# EAGLE library part ICSP_HDR (library ZMPLC)
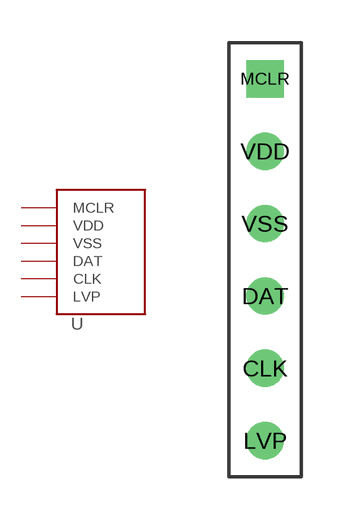
[diagram p26: symbol with the pads of ACTUAL_ICSP; footprint ACTUAL_ICSP]

Designator prefix -

## ICSP_HDR  [ACTUAL_ICSP]
CLK  CLK
DAT  DAT
LVP  LVP
MCLR  MCLR
VDD  VDD
VSS  VSS

## Footprint ACTUAL_ICSP (pad centres in mm)
drill 0.8: CLK 0,-7.62; DAT 0,-5.08; LVP 0,-10.16; VDD 0,0; VSS 0,-2.54
drill 0.8 square: MCLR 0,2.54